# EAGLE library part CONN_SAS_SATA_22P_V2 (library GPLIB_CONN)
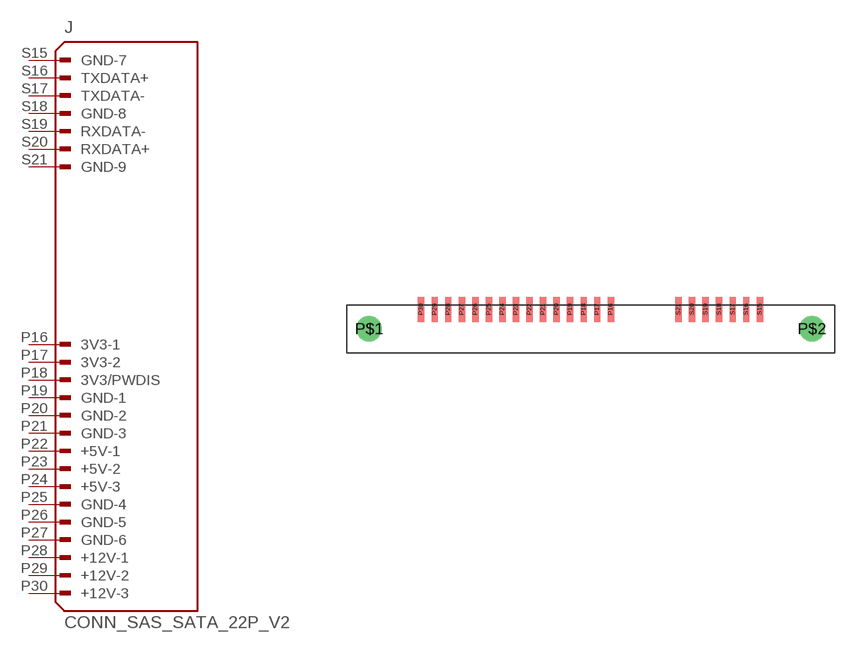
[diagram p48: symbol with the pads of CONN_22P_SAS_RECEPTACLE_SMT_V2; footprint CONN_22P_SAS_RECEPTACLE_SMT_V2]

Designator prefix J

## CONN_SAS_SATA_22P_V2_CONN_22P  [CONN_22P_SAS_RECEPTACLE_SMT_V2]
P16  3V3-1  pas
P17  3V3-2  pas
P18  3V3/PWDIS  pas
P19  GND-1  pas
P20  GND-2  pas
P21  GND-3  pas
P22  +5V-1  pas
P23  +5V-2  pas
P24  +5V-3  pas
P25  GND-4  pas
P26  GND-5  pas
P27  GND-6  pas
P28  +12V-1  pas
P29  +12V-2  pas
P30  +12V-3  pas
S15  GND-7  pas
S16  TXDATA+  pas
S17  TXDATA-  pas
S18  GND-8  pas
S19  RXDATA-  pas
S20  RXDATA+  pas
S21  GND-9  pas

## Footprint CONN_22P_SAS_RECEPTACLE_SMT_V2 (pad centres in mm)
smd 0.6 x 2.35: P16 1.905,1.83; P17 0.635,1.83; P18 -0.635,1.83; P19 -1.905,1.83; P20 -3.175,1.83; P21 -4.445,1.83; P22 -5.715,1.83; P23 -6.985,1.83; P24 -8.255,1.83; P25 -9.525,1.83; P26 -10.795,1.83; P27 -12.065,1.83; P28 -13.335,1.83; P29 -14.605,1.83; P30 -15.875,1.83; S15 15.875,1.83; S16 14.605,1.83; S17 13.335,1.83; S18 12.065,1.83; S19 10.795,1.83; S20 9.525,1.83; S21 8.255,1.83
drill 1.6 pad 2.3: P$1 -20.75,0; P$2 20.75,0